# EAGLE library part B6B-XH-A(LF)(SN) (library B6B-XH-A_LF__SN_)
Check availability <https://pricing.snapeda.com/parts/B6B-XH-A%28LF%29%28SN%29/JST%20Sales%20America%20Inc./view-part?ref=eda>
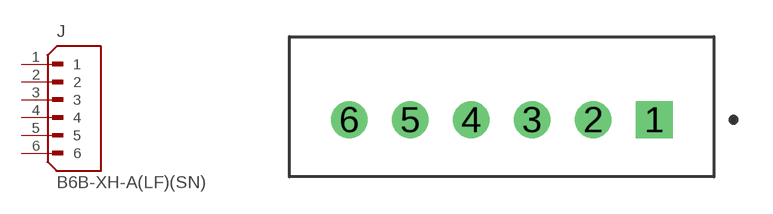
[diagram p0: symbol with the pads of JST_B6B-XH-A(LF)(SN); footprint JST_B6B-XH-A(LF)(SN)]

Designator prefix J

## B6B-XH-A(LF)(SN) (Availability: In Stock; Check_prices: https://www.snapeda.com/parts/B6B-XH-A(LF)(SN)/JST/view-part/?ref=eda; Description: Connector Header Through Hole 6 position 0.098 (2.50mm); MF: JST Sales America Inc.; MP: B6B-XH-A(LF)(SN); Package: None; Price: None; SnapEDA_Link: https://www.snapeda.com/parts/B6B-XH-A(LF)(SN)/JST/view-part/?ref=snap)  [JST_B6B-XH-A(LF)(SN)]
1  1  pas
2  2  pas
3  3  pas
4  4  pas
5  5  pas
6  6  pas

## Footprint JST_B6B-XH-A(LF)(SN) (pad centres in mm)
drill 1 square: 1 6.25,-0.525
drill 1: 2 3.75,-0.525; 3 1.25,-0.525; 4 -1.25,-0.525; 5 -3.75,-0.525; 6 -6.25,-0.525